# Altium integrated library SN74HC165N.IntLib: 1 symbol
Pins are listed as number, name and electrical type; pins without a type are passive.

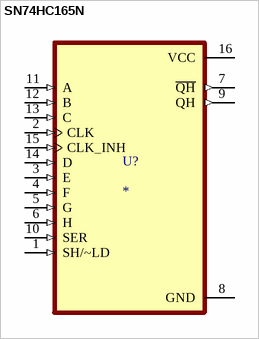
[diagram p0: symbol SN74HC165N]

## SN74HC165N
designator U?
8-Bit Parallel-Load Shift Registers; MF: Texas Instruments; MP: SN74HC165N; SnapEDA_Link: https://www.snapeda.com/parts/SN74HC165N/Texas+Instruments/view-part/?ref=snap; Package: PDIP-16 Texas Instruments; Value: *; Check_prices: https://www.snapeda.com/parts/SN74HC165N/Texas+Instruments/view-part/?ref=eda
footprint DIP794W45P254L1969H508Q16
pins: 1 SH/~LD (in), 2 CLK (in), 3 E (in), 4 F (in), 5 G (in), 6 H (in), 7 ~{QH} (out), 8 GND (power), 9 QH (out), 10 SER (in), 11 A (in), 12 B (in), 13 C (in), 14 D (in), 15 CLK_INH (in), 16 VCC (power)